# Altium footprint library PcbLib_Connectors.PcbLib: 2 footprints
Each footprint in its own frame and in the unit in brackets; x right, y up, seen from the top. Pads: shape width x height; smd on the part's side, far side on the other; paste and mask are expansions set on the pad; w line width, h text height; cw(c..) or ccw(c..) is an arc to the next point about the centre after c.
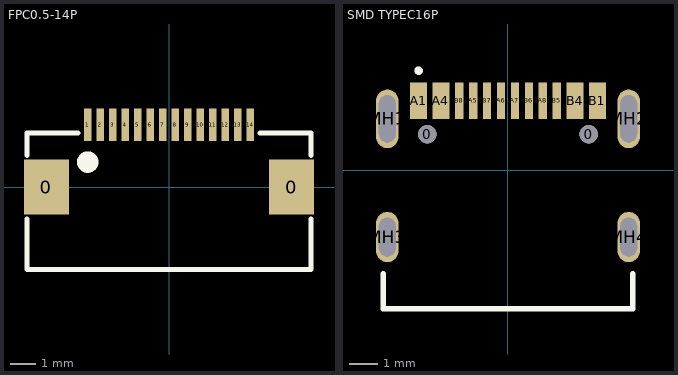
[diagram p0: the footprints below, top view; thin cyan lines are the x and y axes]

## FPC0.5-14P [mm]
pads (16):
  rect 1.8x2.2 smd: 0(-4.9,0) 0(4.9,0)
  rect 0.3x1.3 smd: 1(-3.25,2.497) 2(-2.75,2.497) 3(-2.25,2.497) 4(-1.75,2.497) 5(-1.25,2.497) 6(-0.75,2.497) 7(-0.25,2.497) 8(0.25,2.497) 9(0.75,2.497) 10(1.25,2.497) 11(1.75,2.497) 12(2.25,2.497) 13(2.75,2.497) 14(3.25,2.497)
Top Overlay:
  circle w0.5: c-3.25,1 r0.18
  lines w0.2: -5.675,-1.27 -5.675,-3.302 5.675,-3.302 5.675,-1.27 ; -5.675,1.27 -5.675,2.159 -3.643,2.159 ; 3.643,2.159 5.675,2.159 5.675,1.27
3D body "FPC0.5-14P.STEP": height 2, standoff -0.01, extent -5.6,-3.226 5.6,2.774

## SMD TYPEC16P [mm]
pads (18):
  round 0.65 hole 0.65 unplated: 0(-2.89,1.289) 0(2.89,1.289)
  rect 0.6x1.3 smd: A1(-3.2,2.491) A4(-2.4,2.491) B1(3.2,2.491) B4(2.4,2.491)
  rect 0.3x1.3 smd: A5(-1.25,2.491) A6(-0.25,2.491) A7(0.25,2.491) A8(1.25,2.491) B5(1.75,2.491) B6(0.75,2.491) B7(-0.75,2.491) B8(-1.75,2.491)
  oval 0.8x2.1 hole 0.6 slot 1.7 at 90 deg: MH1(-4.32,1.841) MH2(4.32,1.841)
  oval 0.8x1.8 hole 0.6 slot 1.4 at 90 deg: MH3(-4.32,-2.391) MH4(4.32,-2.391)
Top Overlay:
  circle w0.2: c-3.2,3.566 r0.05
  lines w0.2: -4.47,-3.708 -4.47,-4.957 4.47,-4.957 4.47,-3.708
3D body "USB Type C Port (SMD Type).SLDPRT": height 3.3, standoff -0.9, extent -4.47,-4.957 4.47,2.943